# EAGLE library part 418117170904 (library EAGLE-TACT_SWITCHES-rev17c)
2.54 mm compact THT with flat actuator WS-DITV, 4 Pole <http://katalog.we-online.de/media/images/v2/Family_WS-DITV_4181171709xx.jpg> Details see: http://katalog.we-online.de/en/em/DITV_2_54_COMPACT_THT_WITH_FLAT_ACTUATOR 2015 (C) Wurth Elektronik
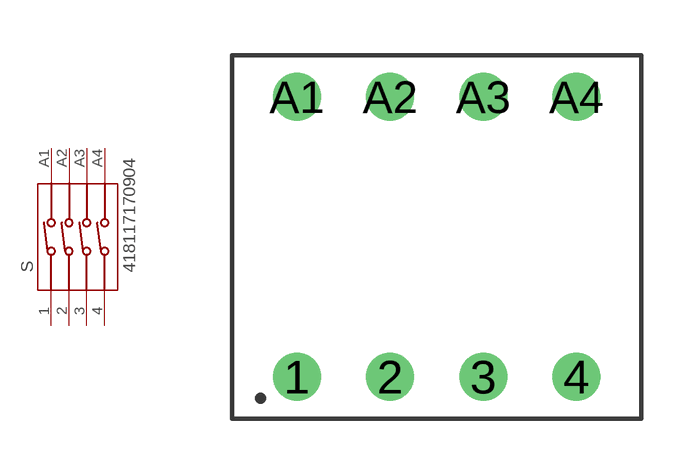
[diagram p43: symbol with the pads of 418117170904; footprint 418117170904]

Designator prefix S

## 418117170904  [418117170904]
1  1  pas
2  2  pas
3  3  pas
4  4  pas
A1  8  pas
A2  7  pas
A3  6  pas
A4  5  pas

## Footprint 418117170904 (pad centres in mm)
WS-BS 2.54 mm compact THT Dip Switch with flat actuator, 4 Pole
drill 0.8: 1 -3.81,-3.81; 2 -1.27,-3.81; 3 1.27,-3.81; 4 3.81,-3.81; A1 -3.81,3.81; A2 -1.27,3.81; A3 1.27,3.81; A4 3.81,3.81